# EAGLE library part ADUM1250 (library Semiconductors > Integrated Circuits - ICs > Interface ICs > Digital Isolators)
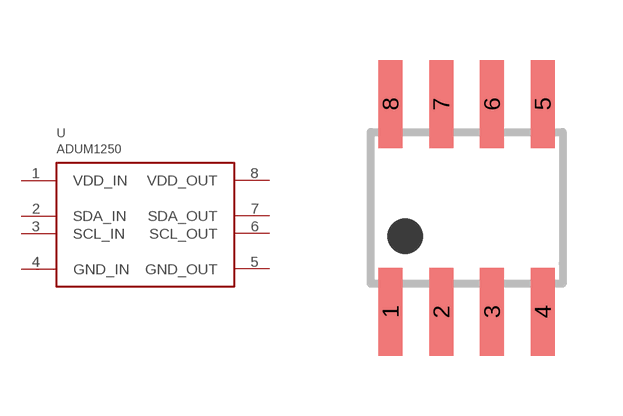
[diagram p0: symbol with the pads of SOIC8; footprint SOIC8]

Designator prefix U

## ADUM1250  [SOIC8]
1  VDD_IN
2  SDA_IN
3  SCL_IN
4  GND_IN
5  GND_OUT
6  SCL_OUT
7  SDA_OUT
8  VDD_OUT

## Footprint SOIC8 (pad centres in mm)
Small Outline IC
smd 0.6 x 2.2: 1 -1.905,-2.6; 2 -0.635,-2.6; 3 0.635,-2.6; 4 1.905,-2.6; 5 1.905,2.6; 6 0.635,2.6; 7 -0.635,2.6; 8 -1.905,2.6